# Altium schematic symbol library THD Discrete Semiconductors.SchLib: 185 symbols (part 1 of 3)
Pins are listed as number, name and electrical type; pins without a type are passive.

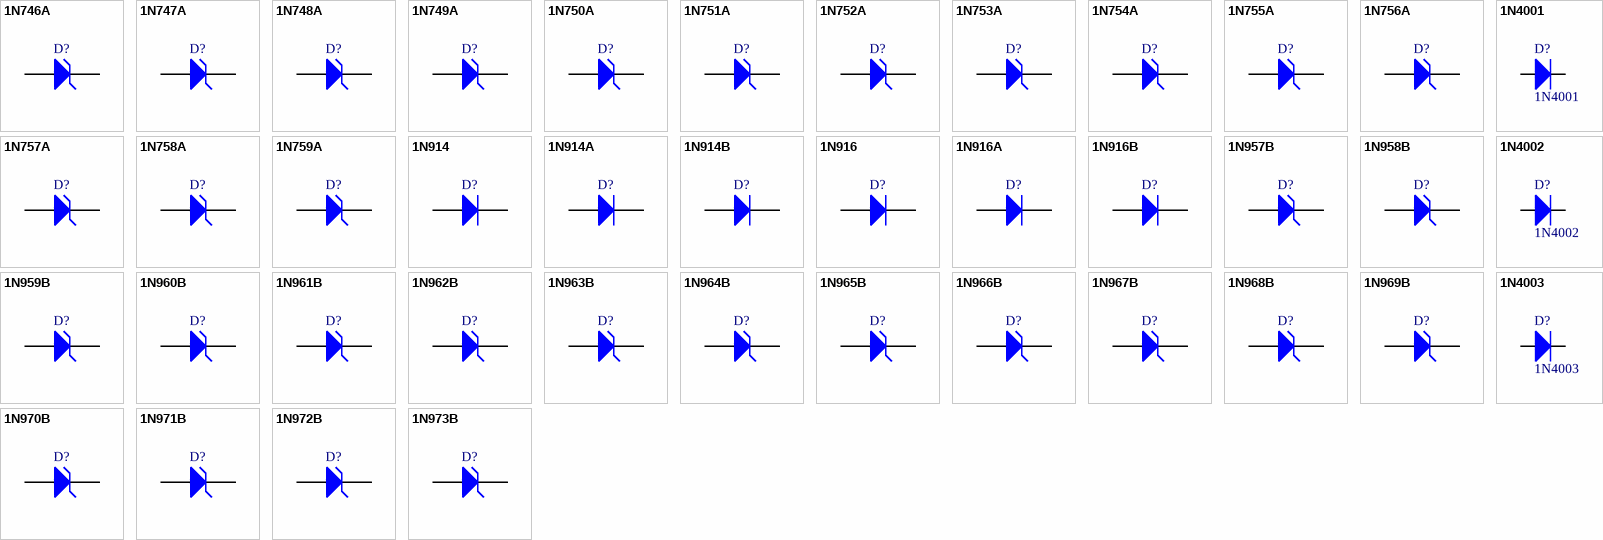
[diagram p0: symbols 1N746A to 1N4003]

## 1N746A
designator D?
3.3V Half Watt Zener; Manufacturer: Fairchild Semiconductor; Revised: 11-July-2000: SIM Model Added.; Class: Discrete; SubClass: Diode - Zener; Published: 8/06/2000; Publisher: Altium Hobart Technology Centre
footprint DO-35-300-RED-GLASS (Diode, Axial; Body 5.2 x 2.7 mm (LxDia. max), Lead Dia. 0.86 mm (max))
pins: 1 A, 2 K

## 1N747A
designator D?
3.6V Half Watt Zener; Manufacturer: Fairchild Semiconductor; Revised: 11-July-2000: SIM Model Added.; Class: Discrete; SubClass: Diode - Zener; Published: 8/06/2000; Publisher: Altium Hobart Technology Centre
footprint DO-35-300-RED-GLASS (Diode, Axial; Body 5.2 x 2.7 mm (LxDia. max), Lead Dia. 0.86 mm (max))
pins: 1 A, 2 K

## 1N748A
designator D?
3.9V Half Watt Zener; Manufacturer: Fairchild Semiconductor; Revised: 11-July-2000: SIM Model Added.; Class: Discrete; SubClass: Diode - Zener; Published: 8/06/2000; Publisher: Altium Hobart Technology Centre
footprint DO-35-300-RED-GLASS (Diode, Axial; Body 5.2 x 2.7 mm (LxDia. max), Lead Dia. 0.86 mm (max))
pins: 1 A, 2 K

## 1N749A
designator D?
4.3V Half Watt Zener; Manufacturer: Fairchild Semiconductor; Revised: 11-July-2000: SIM Model Added.; Class: Discrete; SubClass: Diode - Zener; Published: 8/06/2000; Publisher: Altium Hobart Technology Centre
footprint DO-35-300-RED-GLASS (Diode, Axial; Body 5.2 x 2.7 mm (LxDia. max), Lead Dia. 0.86 mm (max))
pins: 1 A, 2 K

## 1N750A
designator D?
4.7V Half Watt Zener; Manufacturer: Fairchild Semiconductor; Revised: 11-July-2000: SIM Model Added.; Class: Discrete; SubClass: Diode - Zener; Published: 8/06/2000; Publisher: Altium Hobart Technology Centre
footprint DO-35-300-RED-GLASS (Diode, Axial; Body 5.2 x 2.7 mm (LxDia. max), Lead Dia. 0.86 mm (max))
pins: 1 A, 2 K

## 1N751A
designator D?
5.1V Half Watt Zener; Manufacturer: Fairchild Semiconductor; Revised: 11-July-2000: SIM Model Added.; Class: Discrete; SubClass: Diode - Zener; Published: 8/06/2000; Publisher: Altium Hobart Technology Centre
footprint DO-35-300-RED-GLASS (Diode, Axial; Body 5.2 x 2.7 mm (LxDia. max), Lead Dia. 0.86 mm (max))
pins: 1 A, 2 K

## 1N752A
designator D?
5.6V Half Watt Zener; Manufacturer: Fairchild Semiconductor; Revised: 11-July-2000: SIM Model Added.; Class: Discrete; SubClass: Diode - Zener; Published: 8/06/2000; Publisher: Altium Hobart Technology Centre
footprint DO-35-300-RED-GLASS (Diode, Axial; Body 5.2 x 2.7 mm (LxDia. max), Lead Dia. 0.86 mm (max))
pins: 1 A, 2 K

## 1N753A
designator D?
6.2V Half Watt Zener; Manufacturer: Fairchild Semiconductor; Revised: 11-July-2000: SIM Model Added.; Class: Discrete; SubClass: Diode - Zener; Published: 8/06/2000; Publisher: Altium Hobart Technology Centre
footprint DO-35-300-RED-GLASS (Diode, Axial; Body 5.2 x 2.7 mm (LxDia. max), Lead Dia. 0.86 mm (max))
pins: 1 A, 2 K

## 1N754A
designator D?
6.8V Half Watt Zener; Manufacturer: Fairchild Semiconductor; Revised: 11-July-2000: SIM Model Added.; Class: Discrete; SubClass: Diode - Zener; Published: 8/06/2000; Publisher: Altium Hobart Technology Centre
footprint DO-35-300-RED-GLASS (Diode, Axial; Body 5.2 x 2.7 mm (LxDia. max), Lead Dia. 0.86 mm (max))
pins: 1 A, 2 K

## 1N755A
designator D?
7.5V Half Watt Zener; Manufacturer: Fairchild Semiconductor; Revised: 11-July-2000: SIM Model Added.; Class: Discrete; SubClass: Diode - Zener; Published: 8/06/2000; Publisher: Altium Hobart Technology Centre
footprint DO-35-300-RED-GLASS (Diode, Axial; Body 5.2 x 2.7 mm (LxDia. max), Lead Dia. 0.86 mm (max))
pins: 1 A, 2 K

## 1N756A
designator D?
8.2V Half Watt Zener; Manufacturer: Fairchild Semiconductor; Revised: 11-July-2000: SIM Model Added.; Class: Discrete; SubClass: Diode - Zener; Published: 8/06/2000; Publisher: Altium Hobart Technology Centre
footprint DO-35-300-RED-GLASS (Diode, Axial; Body 5.2 x 2.7 mm (LxDia. max), Lead Dia. 0.86 mm (max))
pins: 1 A, 2 K

## 1N757A
designator D?
9.1V Half Watt Zener; Manufacturer: Fairchild Semiconductor; Revised: 11-July-2000: SIM Model Added.; Class: Discrete; SubClass: Diode - Zener; Published: 8/06/2000; Publisher: Altium Hobart Technology Centre
footprint DO-35-300-RED-GLASS (Diode, Axial; Body 5.2 x 2.7 mm (LxDia. max), Lead Dia. 0.86 mm (max))
pins: 1 A, 2 K

## 1N758A
designator D?
10.0V Half Watt Zener; Manufacturer: Fairchild Semiconductor; Revised: 11-July-2000: SIM Model Added.; Class: Discrete; SubClass: Diode - Zener; Published: 8/06/2000; Publisher: Altium Hobart Technology Centre
footprint DO-35-300-RED-GLASS (Diode, Axial; Body 5.2 x 2.7 mm (LxDia. max), Lead Dia. 0.86 mm (max))
pins: 1 A, 2 K

## 1N759A
designator D?
12.0V Half Watt Zener; Manufacturer: Fairchild Semiconductor; Revised: 11-July-2000: SIM Model Added.; Class: Discrete; SubClass: Diode - Zener; Published: 8/06/2000; Publisher: Altium Hobart Technology Centre
footprint DO-35-300-RED-GLASS (Diode, Axial; Body 5.2 x 2.7 mm (LxDia. max), Lead Dia. 0.86 mm (max))
pins: 1 A, 2 K

## 1N914
designator D?
High Conductance Fast Diode; Manufacturer: Fairchild Semiconductor; Revised: 11-July-2000: SIM Model Added.; Class: Discrete; SubClass: Diode - Switching; Published: 8/06/2000; Publisher: Altium Hobart Technology Centre
footprint DO-35-300-RED-GLASS (Diode, Axial; Body 5.2 x 2.7 mm (LxDia. max), Lead Dia. 0.86 mm (max))
pins: 1 A, 2 K

## 1N914A
designator D?
High Conductance Fast Diode; Manufacturer: Fairchild Semiconductor; Revised: 11-July-2000: SIM Model Added.; Class: Discrete; SubClass: Diode - Switching; Published: 8/06/2000; Publisher: Altium Hobart Technology Centre
footprint DO-35-300-RED-GLASS (Diode, Axial; Body 5.2 x 2.7 mm (LxDia. max), Lead Dia. 0.86 mm (max))
pins: 1 A, 2 K

## 1N914B
designator D?
High Conductance Fast Diode; Manufacturer: Fairchild Semiconductor; Revised: 11-July-2000: SIM Model Added.; Class: Discrete; SubClass: Diode - Switching; Published: 8/06/2000; Publisher: Altium Hobart Technology Centre
footprint DO-35-300-RED-GLASS (Diode, Axial; Body 5.2 x 2.7 mm (LxDia. max), Lead Dia. 0.86 mm (max))
pins: 1 A, 2 K

## 1N916
designator D?
High Conductance Fast Diode; Manufacturer: Fairchild Semiconductor; Revised: 11-July-2000: SIM Model Added.; Class: Discrete; SubClass: Diode - Switching; Published: 8/06/2000; Publisher: Altium Hobart Technology Centre
footprint DO-35-300-RED-GLASS (Diode, Axial; Body 5.2 x 2.7 mm (LxDia. max), Lead Dia. 0.86 mm (max))
pins: 1 A, 2 K

## 1N916A
designator D?
High Conductance Fast Diode; Manufacturer: Fairchild Semiconductor; Revised: 11-July-2000: SIM Model Added.; Class: Discrete; SubClass: Diode - Switching; Published: 8/06/2000; Publisher: Altium Hobart Technology Centre
footprint DO-35-300-RED-GLASS (Diode, Axial; Body 5.2 x 2.7 mm (LxDia. max), Lead Dia. 0.86 mm (max))
pins: 1 A, 2 K

## 1N916B
designator D?
High Conductance Fast Diode; Manufacturer: Fairchild Semiconductor; Revised: 11-July-2000: SIM Model Added.; Class: Discrete; SubClass: Diode - Switching; Published: 8/06/2000; Publisher: Altium Hobart Technology Centre
footprint DO-35-300-RED-GLASS (Diode, Axial; Body 5.2 x 2.7 mm (LxDia. max), Lead Dia. 0.86 mm (max))
pins: 1 A, 2 K

## 1N957B
designator D?
6.8V Half Watt Zener; Manufacturer: Fairchild Semiconductor; Revised: 11-July-2000: SIM Model Added.; Class: Discrete; SubClass: Diode - Zener; Published: 8/06/2000; Publisher: Altium Hobart Technology Centre
footprint DO-35-300-RED-GLASS (Diode, Axial; Body 5.2 x 2.7 mm (LxDia. max), Lead Dia. 0.86 mm (max))
pins: 1 A, 2 K

## 1N958B
designator D?
7.5V Half Watt Zener; Manufacturer: Fairchild Semiconductor; Revised: 11-July-2000: SIM Model Added.; Class: Discrete; SubClass: Diode - Zener; Published: 8/06/2000; Publisher: Altium Hobart Technology Centre
footprint DO-35-300-RED-GLASS (Diode, Axial; Body 5.2 x 2.7 mm (LxDia. max), Lead Dia. 0.86 mm (max))
pins: 1 A, 2 K

## 1N959B
designator D?
8.2V Half Watt Zener; Manufacturer: Fairchild Semiconductor; Revised: 11-July-2000: SIM Model Added.; Class: Discrete; SubClass: Diode - Zener; Published: 8/06/2000; Publisher: Altium Hobart Technology Centre
footprint DO-35-300-RED-GLASS (Diode, Axial; Body 5.2 x 2.7 mm (LxDia. max), Lead Dia. 0.86 mm (max))
pins: 1 A, 2 K

## 1N960B
designator D?
9.1V Half Watt Zener; Manufacturer: Fairchild Semiconductor; Revised: 11-July-2000: SIM Model Added.; Class: Discrete; SubClass: Diode - Zener; Published: 8/06/2000; Publisher: Altium Hobart Technology Centre
footprint DO-35-300-RED-GLASS (Diode, Axial; Body 5.2 x 2.7 mm (LxDia. max), Lead Dia. 0.86 mm (max))
pins: 1 A, 2 K

## 1N961B
designator D?
10V Half Watt Zener; Manufacturer: Fairchild Semiconductor; Revised: 11-July-2000: SIM Model Added.; Class: Discrete; SubClass: Diode - Zener; Published: 8/06/2000; Publisher: Altium Hobart Technology Centre
footprint DO-35-300-RED-GLASS (Diode, Axial; Body 5.2 x 2.7 mm (LxDia. max), Lead Dia. 0.86 mm (max))
pins: 1 A, 2 K

## 1N962B
designator D?
11V Half Watt Zener; Manufacturer: Fairchild Semiconductor; Revised: 11-July-2000: SIM Model Added.; Class: Discrete; SubClass: Diode - Zener; Published: 8/06/2000; Publisher: Altium Hobart Technology Centre
footprint DO-35-300-RED-GLASS (Diode, Axial; Body 5.2 x 2.7 mm (LxDia. max), Lead Dia. 0.86 mm (max))
pins: 1 A, 2 K

## 1N963B
designator D?
12V Half Watt Zener; Manufacturer: Fairchild Semiconductor; Revised: 11-July-2000: SIM Model Added.; Class: Discrete; SubClass: Diode - Zener; Published: 8/06/2000; Publisher: Altium Hobart Technology Centre
footprint DO-35-300-RED-GLASS (Diode, Axial; Body 5.2 x 2.7 mm (LxDia. max), Lead Dia. 0.86 mm (max))
pins: 1 A, 2 K

## 1N964B
designator D?
13V Half Watt Zener; Manufacturer: Fairchild Semiconductor; Revised: 11-July-2000: SIM Model Added.; Class: Discrete; SubClass: Diode - Zener; Published: 8/06/2000; Publisher: Altium Hobart Technology Centre
footprint DO-35-300-RED-GLASS (Diode, Axial; Body 5.2 x 2.7 mm (LxDia. max), Lead Dia. 0.86 mm (max))
pins: 1 A, 2 K

## 1N965B
designator D?
15V Half Watt Zener; Manufacturer: Fairchild Semiconductor; Revised: 11-July-2000: SIM Model Added.; Class: Discrete; SubClass: Diode - Zener; Published: 8/06/2000; Publisher: Altium Hobart Technology Centre
footprint DO-35-300-RED-GLASS (Diode, Axial; Body 5.2 x 2.7 mm (LxDia. max), Lead Dia. 0.86 mm (max))
pins: 1 A, 2 K

## 1N966B
designator D?
16V Half Watt Zener; Manufacturer: Fairchild Semiconductor; Revised: 11-July-2000: SIM Model Added.; Class: Discrete; SubClass: Diode - Zener; Published: 8/06/2000; Publisher: Altium Hobart Technology Centre
footprint DO-35-300-RED-GLASS (Diode, Axial; Body 5.2 x 2.7 mm (LxDia. max), Lead Dia. 0.86 mm (max))
pins: 1 A, 2 K

## 1N967B
designator D?
18V Half Watt Zener; Manufacturer: Fairchild Semiconductor; Revised: 11-July-2000: SIM Model Added.; Class: Discrete; SubClass: Diode - Zener; Published: 8/06/2000; Publisher: Altium Hobart Technology Centre
footprint DO-35-300-RED-GLASS (Diode, Axial; Body 5.2 x 2.7 mm (LxDia. max), Lead Dia. 0.86 mm (max))
pins: 1 A, 2 K

## 1N968B
designator D?
20V Half Watt Zener; Manufacturer: Fairchild Semiconductor; Revised: 11-July-2000: SIM Model Added.; Class: Discrete; SubClass: Diode - Zener; Published: 8/06/2000; Publisher: Altium Hobart Technology Centre
footprint DO-35-300-RED-GLASS (Diode, Axial; Body 5.2 x 2.7 mm (LxDia. max), Lead Dia. 0.86 mm (max))
pins: 1 A, 2 K

## 1N969B
designator D?
22V Half Watt Zener; Manufacturer: Fairchild Semiconductor; Revised: 11-July-2000: SIM Model Added.; Class: Discrete; SubClass: Diode - Zener; Published: 8/06/2000; Publisher: Altium Hobart Technology Centre
footprint DO-35-300-RED-GLASS (Diode, Axial; Body 5.2 x 2.7 mm (LxDia. max), Lead Dia. 0.86 mm (max))
pins: 1 A, 2 K

## 1N970B
designator D?
24V Half Watt Zener; Manufacturer: Fairchild Semiconductor; Revised: 11-July-2000: SIM Model Added.; Class: Discrete; SubClass: Diode - Zener; Published: 8/06/2000; Publisher: Altium Hobart Technology Centre
footprint DO-35-300-RED-GLASS (Diode, Axial; Body 5.2 x 2.7 mm (LxDia. max), Lead Dia. 0.86 mm (max))
pins: 1 A, 2 K

## 1N971B
designator D?
27V Half Watt Zener; Manufacturer: Fairchild Semiconductor; Revised: 11-July-2000: SIM Model Added.; Class: Discrete; SubClass: Diode - Zener; Published: 8/06/2000; Publisher: Altium Hobart Technology Centre
footprint DO-35-300-RED-GLASS (Diode, Axial; Body 5.2 x 2.7 mm (LxDia. max), Lead Dia. 0.86 mm (max))
pins: 1 A, 2 K

## 1N972B
designator D?
30V Half Watt Zener; Manufacturer: Fairchild Semiconductor; Revised: 11-July-2000: SIM Model Added.; Class: Discrete; SubClass: Diode - Zener; Published: 8/06/2000; Publisher: Altium Hobart Technology Centre
footprint DO-35-300-RED-GLASS (Diode, Axial; Body 5.2 x 2.7 mm (LxDia. max), Lead Dia. 0.86 mm (max))
pins: 1 A, 2 K

## 1N973B
designator D?
33V Half Watt Zener; Manufacturer: Fairchild Semiconductor; Revised: 11-July-2000: SIM Model Added.; Class: Discrete; SubClass: Diode - Zener; Published: 8/06/2000; Publisher: Altium Hobart Technology Centre
footprint DO-35-300-RED-GLASS (Diode, Axial; Body 5.2 x 2.7 mm (LxDia. max), Lead Dia. 0.86 mm (max))
pins: 1 A, 2 K

## 1N4001
designator D?
1A,  Vrms=35V General Purpose Rectifier; Published: 8-Jun-2000; LatestRevisionDate: 17-Jul-2002; LatestRevisionNote: Re-released for DXP Platform.; DatasheetVersion: 1998; PackageVersion: Aug-1999; PackageReference: DO-41; Publisher: Altium Limited; PackageDescription: Diode, Axial; Body 5.2 x 2.7 mm (LxDia. max), Lead Dia. 0.86 mm (max); Code_JEDEC: DO-204-AL; ComponentLink1Description: Manufacturer Link; ComponentLink1URL: http://www.fairchildsemi.com/; ComponentLink2Description: Datasheet; ComponentLink2URL: http://www.fairchildsemi.com/ds/1N%2F1N4001.pdf
footprint DO-41-400-BLACK (Diode, Axial; Body 5.2 x 2.7 mm (LxDia. max), Lead Dia. 0.86 mm (max))
footprint DO-41-300-BLACK (Diode, Axial; Body 5.2 x 2.7 mm (LxDia. max), Lead Dia. 0.86 mm (max))
footprint DO-41-500-BLACK (Diode, Axial; Body 5.2 x 2.7 mm (LxDia. max), Lead Dia. 0.86 mm (max))
pins: 1 A, 2 K

## 1N4002
designator D?
1A,  Vrms=70V General Purpose Rectifier; Published: 8-Jun-2000; LatestRevisionDate: 17-Jul-2002; LatestRevisionNote: Re-released for DXP Platform.; DatasheetVersion: 1998; PackageVersion: Aug-1999; PackageReference: DO-41; Publisher: Altium Limited; PackageDescription: Diode, Axial; Body 5.2 x 2.7 mm (LxDia. max), Lead Dia. 0.86 mm (max); Code_JEDEC: DO-204-AL; ComponentLink1Description: Manufacturer Link; ComponentLink1URL: http://www.fairchildsemi.com/; ComponentLink2Description: Datasheet; ComponentLink2URL: http://www.fairchildsemi.com/ds/1N%2F1N4001.pdf
footprint DO-41-400-BLACK (Diode, Axial; Body 5.2 x 2.7 mm (LxDia. max), Lead Dia. 0.86 mm (max))
footprint DO-41-300-BLACK (Diode, Axial; Body 5.2 x 2.7 mm (LxDia. max), Lead Dia. 0.86 mm (max))
footprint DO-41-500-BLACK (Diode, Axial; Body 5.2 x 2.7 mm (LxDia. max), Lead Dia. 0.86 mm (max))
pins: 1 A, 2 K

## 1N4003
designator D?
1A,  Vrms=140V General Purpose Rectifier; Published: 8-Jun-2000; LatestRevisionDate: 17-Jul-2002; LatestRevisionNote: Re-released for DXP Platform.; DatasheetVersion: 1998; PackageVersion: Aug-1999; PackageReference: DO-41; Publisher: Altium Limited; PackageDescription: Diode, Axial; Body 5.2 x 2.7 mm (LxDia. max), Lead Dia. 0.86 mm (max); Code_JEDEC: DO-204-AL; ComponentLink1Description: Manufacturer Link; ComponentLink1URL: http://www.fairchildsemi.com/; ComponentLink2Description: Datasheet; ComponentLink2URL: http://www.fairchildsemi.com/ds/1N%2F1N4001.pdf
footprint DO-41-400-BLACK (Diode, Axial; Body 5.2 x 2.7 mm (LxDia. max), Lead Dia. 0.86 mm (max))
footprint DO-41-300-BLACK (Diode, Axial; Body 5.2 x 2.7 mm (LxDia. max), Lead Dia. 0.86 mm (max))
footprint DO-41-500-BLACK (Diode, Axial; Body 5.2 x 2.7 mm (LxDia. max), Lead Dia. 0.86 mm (max))
pins: 1 A, 2 K

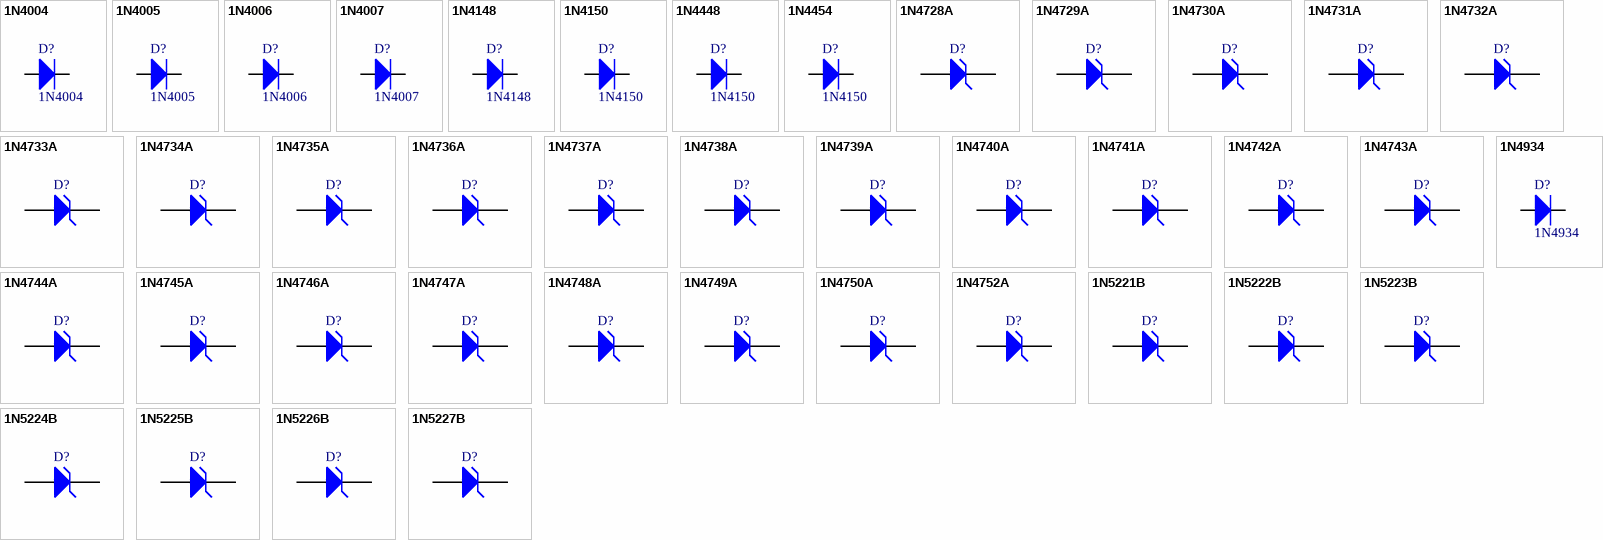
[diagram p1: symbols 1N4004 to 1N5227B]

## 1N4004
designator D?
1A,  Vrms=280V General Purpose Rectifier; Published: 8-Jun-2000; LatestRevisionDate: 17-Jul-2002; LatestRevisionNote: Re-released for DXP Platform.; DatasheetVersion: 1998; PackageVersion: Aug-1999; PackageReference: DO-41; Publisher: Altium Limited; PackageDescription: Diode, Axial; Body 5.2 x 2.7 mm (LxDia. max), Lead Dia. 0.86 mm (max); Code_JEDEC: DO-204-AL; ComponentLink1Description: Manufacturer Link; ComponentLink1URL: http://www.fairchildsemi.com/; ComponentLink2Description: Datasheet; ComponentLink2URL: http://www.fairchildsemi.com/ds/1N%2F1N4001.pdf
footprint DO-41-400-BLACK (Diode, Axial; Body 5.2 x 2.7 mm (LxDia. max), Lead Dia. 0.86 mm (max))
footprint DO-41-300-BLACK (Diode, Axial; Body 5.2 x 2.7 mm (LxDia. max), Lead Dia. 0.86 mm (max))
footprint DO-41-500-BLACK (Diode, Axial; Body 5.2 x 2.7 mm (LxDia. max), Lead Dia. 0.86 mm (max))
pins: 1 A, 2 K

## 1N4005
designator D?
1A,  Vrms=420V General Purpose Rectifier; Published: 8-Jun-2000; LatestRevisionDate: 17-Jul-2002; LatestRevisionNote: Re-released for DXP Platform.; DatasheetVersion: 1998; PackageVersion: Aug-1999; PackageReference: DO-41; Publisher: Altium Limited; PackageDescription: Diode, Axial; Body 5.2 x 2.7 mm (LxDia. max), Lead Dia. 0.86 mm (max); Code_JEDEC: DO-204-AL; ComponentLink1Description: Manufacturer Link; ComponentLink1URL: http://www.fairchildsemi.com/; ComponentLink2Description: Datasheet; ComponentLink2URL: http://www.fairchildsemi.com/ds/1N%2F1N4001.pdf
footprint DO-41-400-BLACK (Diode, Axial; Body 5.2 x 2.7 mm (LxDia. max), Lead Dia. 0.86 mm (max))
footprint DO-41-300-BLACK (Diode, Axial; Body 5.2 x 2.7 mm (LxDia. max), Lead Dia. 0.86 mm (max))
footprint DO-41-500-BLACK (Diode, Axial; Body 5.2 x 2.7 mm (LxDia. max), Lead Dia. 0.86 mm (max))
pins: 1 A, 2 K

## 1N4006
designator D?
1A,  Vrms=560V General Purpose Rectifier; Published: 8-Jun-2000; LatestRevisionDate: 17-Jul-2002; LatestRevisionNote: Re-released for DXP Platform.; DatasheetVersion: 1998; PackageVersion: Aug-1999; PackageReference: DO-41; Publisher: Altium Limited; PackageDescription: Diode, Axial; Body 5.2 x 2.7 mm (LxDia. max), Lead Dia. 0.86 mm (max); Code_JEDEC: DO-204-AL; ComponentLink1Description: Manufacturer Link; ComponentLink1URL: http://www.fairchildsemi.com/; ComponentLink2Description: Datasheet; ComponentLink2URL: http://www.fairchildsemi.com/ds/1N%2F1N4001.pdf
footprint DO-41-400-BLACK (Diode, Axial; Body 5.2 x 2.7 mm (LxDia. max), Lead Dia. 0.86 mm (max))
footprint DO-41-300-BLACK (Diode, Axial; Body 5.2 x 2.7 mm (LxDia. max), Lead Dia. 0.86 mm (max))
footprint DO-41-500-BLACK (Diode, Axial; Body 5.2 x 2.7 mm (LxDia. max), Lead Dia. 0.86 mm (max))
pins: 1 A, 2 K

## 1N4007
designator D?
1A,  Vrms=700V General Purpose Rectifier; Published: 8-Jun-2000; LatestRevisionDate: 17-Jul-2002; LatestRevisionNote: Re-released for DXP Platform.; DatasheetVersion: 1998; PackageVersion: Aug-1999; PackageReference: DO-41; Publisher: Altium Limited; PackageDescription: Diode, Axial; Body 5.2 x 2.7 mm (LxDia. max), Lead Dia. 0.86 mm (max); Code_JEDEC: DO-204-AL; ComponentLink1Description: Manufacturer Link; ComponentLink1URL: http://www.fairchildsemi.com/; ComponentLink2Description: Datasheet; ComponentLink2URL: http://www.fairchildsemi.com/ds/1N%2F1N4001.pdf
footprint DO-41-400-BLACK (Diode, Axial; Body 5.2 x 2.7 mm (LxDia. max), Lead Dia. 0.86 mm (max))
footprint DO-41-300-BLACK (Diode, Axial; Body 5.2 x 2.7 mm (LxDia. max), Lead Dia. 0.86 mm (max))
footprint DO-41-500-BLACK (Diode, Axial; Body 5.2 x 2.7 mm (LxDia. max), Lead Dia. 0.86 mm (max))
pins: 1 A, 2 K

## 1N4148
designator D?
300mA Switching Diode; Published: 8-Jun-2000; LatestRevisionDate: 17-Jul-2002; LatestRevisionNote: Re-released for DXP Platform.; DatasheetVersion: 1998; PackageVersion: Aug-1999; PackageReference: DO-41; Publisher: Altium Limited; PackageDescription: Diode, Axial; Body 5.2 x 2.7 mm (LxDia. max), Lead Dia. 0.86 mm (max); Code_JEDEC: DO-204-AL; ComponentLink1Description: Manufacturer Link; ComponentLink1URL: http://www.fairchildsemi.com/; ComponentLink2Description: Datasheet; ComponentLink2URL: http://www.fairchildsemi.com/ds/1N%2F1N4001.pdf
footprint DO-41-300-RED-GLASS (Diode, Axial; Body 5.2 x 2.7 mm (LxDia. max), Lead Dia. 0.86 mm (max))
footprint DO-41-400-RED-GLASS (Diode, Axial; Body 5.2 x 2.7 mm (LxDia. max), Lead Dia. 0.86 mm (max))
footprint DO-41-500-RED-GLASS (Diode, Axial; Body 5.2 x 2.7 mm (LxDia. max), Lead Dia. 0.86 mm (max))
pins: 1 A, 2 K

## 1N4150
designator D?
High Conductance Ultra Fast Diode; Published: 8-Jun-2000; LatestRevisionDate: 17-Jul-2002; LatestRevisionNote: Re-released for DXP Platform.; DatasheetVersion: 1998; PackageVersion: Aug-1999; PackageReference: DO-41; Publisher: Altium Limited; PackageDescription: Diode, Axial; Body 5.2 x 2.7 mm (LxDia. max), Lead Dia. 0.86 mm (max); Code_JEDEC: DO-204-AL; ComponentLink1Description: Manufacturer Link; ComponentLink1URL: http://www.fairchildsemi.com/; ComponentLink2Description: Datasheet; ComponentLink2URL: http://www.fairchildsemi.com/ds/1N%2F1N4001.pdf
footprint DO-41-300-RED-GLASS (Diode, Axial; Body 5.2 x 2.7 mm (LxDia. max), Lead Dia. 0.86 mm (max))
footprint DO-41-400-RED-GLASS (Diode, Axial; Body 5.2 x 2.7 mm (LxDia. max), Lead Dia. 0.86 mm (max))
footprint DO-41-500-RED-GLASS (Diode, Axial; Body 5.2 x 2.7 mm (LxDia. max), Lead Dia. 0.86 mm (max))
pins: 1 A, 2 K

## 1N4448
designator D?, comment 1N4150
High Conductance Fast Diode; Published: 8-Jun-2000; LatestRevisionDate: 17-Jul-2002; LatestRevisionNote: Re-released for DXP Platform.; DatasheetVersion: 1998; PackageVersion: Aug-1999; PackageReference: DO-41; Publisher: Altium Limited; PackageDescription: Diode, Axial; Body 5.2 x 2.7 mm (LxDia. max), Lead Dia. 0.86 mm (max); Code_JEDEC: DO-204-AL; ComponentLink1Description: Manufacturer Link; ComponentLink1URL: http://www.fairchildsemi.com/; ComponentLink2Description: Datasheet; ComponentLink2URL: http://www.fairchildsemi.com/ds/1N%2F1N4001.pdf
footprint DO-41-300-RED-GLASS (Diode, Axial; Body 5.2 x 2.7 mm (LxDia. max), Lead Dia. 0.86 mm (max))
footprint DO-41-400-RED-GLASS (Diode, Axial; Body 5.2 x 2.7 mm (LxDia. max), Lead Dia. 0.86 mm (max))
footprint DO-41-500-RED-GLASS (Diode, Axial; Body 5.2 x 2.7 mm (LxDia. max), Lead Dia. 0.86 mm (max))
pins: 1 A, 2 K

## 1N4454
designator D?, comment 1N4150
High Conductance Ultra Fast Diode; Published: 8-Jun-2000; LatestRevisionDate: 17-Jul-2002; LatestRevisionNote: Re-released for DXP Platform.; DatasheetVersion: 1998; PackageVersion: Aug-1999; PackageReference: DO-41; Publisher: Altium Limited; PackageDescription: Diode, Axial; Body 5.2 x 2.7 mm (LxDia. max), Lead Dia. 0.86 mm (max); Code_JEDEC: DO-204-AL; ComponentLink1Description: Manufacturer Link; ComponentLink1URL: http://www.fairchildsemi.com/; ComponentLink2Description: Datasheet; ComponentLink2URL: http://www.fairchildsemi.com/ds/1N%2F1N4001.pdf
footprint DO-41-300-RED-GLASS (Diode, Axial; Body 5.2 x 2.7 mm (LxDia. max), Lead Dia. 0.86 mm (max))
footprint DO-41-400-RED-GLASS (Diode, Axial; Body 5.2 x 2.7 mm (LxDia. max), Lead Dia. 0.86 mm (max))
footprint DO-41-500-RED-GLASS (Diode, Axial; Body 5.2 x 2.7 mm (LxDia. max), Lead Dia. 0.86 mm (max))
pins: 1 A, 2 K

## 1N4728A
designator D?
3.3V One Watt Zener; Manufacturer: Fairchild Semiconductor; Revised: 11-July-2000: SIM Model Added.; Class: Discrete; SubClass: Diode - Zener; Published: 8/06/2000; Publisher: Altium Hobart Technology Centre
footprint DO-41-300-RED-GLASS (Diode, Axial; Body 5.2 x 2.7 mm (LxDia. max), Lead Dia. 0.86 mm (max))
pins: 1 A, 2 K

## 1N4729A
designator D?
3.6V One Watt Zener; Manufacturer: Fairchild Semiconductor; Revised: 11-July-2000: SIM Model Added.; Class: Discrete; SubClass: Diode - Zener; Published: 8/06/2000; Publisher: Altium Hobart Technology Centre
footprint DO-41-300-RED-GLASS (Diode, Axial; Body 5.2 x 2.7 mm (LxDia. max), Lead Dia. 0.86 mm (max))
pins: 1 A, 2 K

## 1N4730A
designator D?
3.9V One Watt Zener; Manufacturer: Fairchild Semiconductor; Revised: 11-July-2000: SIM Model Added.; Class: Discrete; SubClass: Diode - Zener; Published: 8/06/2000; Publisher: Altium Hobart Technology Centre
footprint DO-41-300-RED-GLASS (Diode, Axial; Body 5.2 x 2.7 mm (LxDia. max), Lead Dia. 0.86 mm (max))
pins: 1 A, 2 K

## 1N4731A
designator D?
4.3V One Watt Zener; Manufacturer: Fairchild Semiconductor; Revised: 11-July-2000: SIM Model Added.; Class: Discrete; SubClass: Diode - Zener; Published: 8/06/2000; Publisher: Altium Hobart Technology Centre
footprint DO-41-300-RED-GLASS (Diode, Axial; Body 5.2 x 2.7 mm (LxDia. max), Lead Dia. 0.86 mm (max))
pins: 1 A, 2 K

## 1N4732A
designator D?
4.7V One Watt Zener; Manufacturer: Fairchild Semiconductor; Revised: 11-July-2000: SIM Model Added.; Class: Discrete; SubClass: Diode - Zener; Published: 8/06/2000; Publisher: Altium Hobart Technology Centre
footprint DO-41-300-RED-GLASS (Diode, Axial; Body 5.2 x 2.7 mm (LxDia. max), Lead Dia. 0.86 mm (max))
pins: 1 A, 2 K

## 1N4733A
designator D?
5.1V One Watt Zener; Manufacturer: Fairchild Semiconductor; Revised: 11-July-2000: SIM Model Added.; Class: Discrete; SubClass: Diode - Zener; Published: 8/06/2000; Publisher: Altium Hobart Technology Centre
footprint DO-41-300-RED-GLASS (Diode, Axial; Body 5.2 x 2.7 mm (LxDia. max), Lead Dia. 0.86 mm (max))
pins: 1 A, 2 K

## 1N4734A
designator D?
5.6V One Watt Zener; Manufacturer: Fairchild Semiconductor; Revised: 11-July-2000: SIM Model Added.; Class: Discrete; SubClass: Diode - Zener; Published: 8/06/2000; Publisher: Altium Hobart Technology Centre
footprint DO-41-300-RED-GLASS (Diode, Axial; Body 5.2 x 2.7 mm (LxDia. max), Lead Dia. 0.86 mm (max))
pins: 1 A, 2 K

## 1N4735A
designator D?
6.2V One Watt Zener; Manufacturer: Fairchild Semiconductor; Revised: 11-July-2000: SIM Model Added.; Class: Discrete; SubClass: Diode - Zener; Published: 8/06/2000; Publisher: Altium Hobart Technology Centre
footprint DO-41-300-RED-GLASS (Diode, Axial; Body 5.2 x 2.7 mm (LxDia. max), Lead Dia. 0.86 mm (max))
pins: 1 A, 2 K

## 1N4736A
designator D?
6.8V One Watt Zener; Manufacturer: Fairchild Semiconductor; Revised: 11-July-2000: SIM Model Added.; Class: Discrete; SubClass: Diode - Zener; Published: 8/06/2000; Publisher: Altium Hobart Technology Centre
footprint DO-41-300-RED-GLASS (Diode, Axial; Body 5.2 x 2.7 mm (LxDia. max), Lead Dia. 0.86 mm (max))
pins: 1 A, 2 K

## 1N4737A
designator D?
7.5V One Watt Zener; Manufacturer: Fairchild Semiconductor; Revised: 11-July-2000: SIM Model Added.; Class: Discrete; SubClass: Diode - Zener; Published: 8/06/2000; Publisher: Altium Hobart Technology Centre
footprint DO-41-300-RED-GLASS (Diode, Axial; Body 5.2 x 2.7 mm (LxDia. max), Lead Dia. 0.86 mm (max))
pins: 1 A, 2 K

## 1N4738A
designator D?
8.2V One Watt Zener; Manufacturer: Fairchild Semiconductor; Revised: 11-July-2000: SIM Model Added.; Class: Discrete; SubClass: Diode - Zener; Published: 8/06/2000; Publisher: Altium Hobart Technology Centre
footprint DO-41-300-RED-GLASS (Diode, Axial; Body 5.2 x 2.7 mm (LxDia. max), Lead Dia. 0.86 mm (max))
pins: 1 A, 2 K

## 1N4739A
designator D?
9.1V One Watt Zener; Manufacturer: Fairchild Semiconductor; Revised: 11-July-2000: SIM Model Added.; Class: Discrete; SubClass: Diode - Zener; Published: 8/06/2000; Publisher: Altium Hobart Technology Centre
footprint DO-41-300-RED-GLASS (Diode, Axial; Body 5.2 x 2.7 mm (LxDia. max), Lead Dia. 0.86 mm (max))
pins: 1 A, 2 K

## 1N4740A
designator D?
10V One Watt Zener; Manufacturer: Fairchild Semiconductor; Revised: 11-July-2000: SIM Model Added.; Class: Discrete; SubClass: Diode - Zener; Published: 8/06/2000; Publisher: Altium Hobart Technology Centre
footprint DO-41-300-RED-GLASS (Diode, Axial; Body 5.2 x 2.7 mm (LxDia. max), Lead Dia. 0.86 mm (max))
pins: 1 A, 2 K

## 1N4741A
designator D?
11V One Watt Zener; Manufacturer: Fairchild Semiconductor; Revised: 11-July-2000: SIM Model Added.; Class: Discrete; SubClass: Diode - Zener; Published: 8/06/2000; Publisher: Altium Hobart Technology Centre
footprint DO-41-300-RED-GLASS (Diode, Axial; Body 5.2 x 2.7 mm (LxDia. max), Lead Dia. 0.86 mm (max))
pins: 1 A, 2 K

## 1N4742A
designator D?
12V One Watt Zener; Manufacturer: Fairchild Semiconductor; Revised: 11-July-2000: SIM Model Added.; Class: Discrete; SubClass: Diode - Zener; Published: 8/06/2000; Publisher: Altium Hobart Technology Centre
footprint DO-41-300-RED-GLASS (Diode, Axial; Body 5.2 x 2.7 mm (LxDia. max), Lead Dia. 0.86 mm (max))
pins: 1 A, 2 K

## 1N4743A
designator D?
13V One Watt Zener; Manufacturer: Fairchild Semiconductor; Revised: 11-July-2000: SIM Model Added.; Class: Discrete; SubClass: Diode - Zener; Published: 8/06/2000; Publisher: Altium Hobart Technology Centre
footprint DO-41-300-RED-GLASS (Diode, Axial; Body 5.2 x 2.7 mm (LxDia. max), Lead Dia. 0.86 mm (max))
pins: 1 A, 2 K

## 1N4744A
designator D?
15V One Watt Zener; Manufacturer: Fairchild Semiconductor; Revised: 11-July-2000: SIM Model Added.; Class: Discrete; SubClass: Diode - Zener; Published: 8/06/2000; Publisher: Altium Hobart Technology Centre
footprint DO-41-300-RED-GLASS (Diode, Axial; Body 5.2 x 2.7 mm (LxDia. max), Lead Dia. 0.86 mm (max))
pins: 1 A, 2 K

## 1N4745A
designator D?
16V One Watt Zener; Manufacturer: Fairchild Semiconductor; Revised: 11-July-2000: SIM Model Added.; Class: Discrete; SubClass: Diode - Zener; Published: 8/06/2000; Publisher: Altium Hobart Technology Centre
footprint DO-41-300-RED-GLASS (Diode, Axial; Body 5.2 x 2.7 mm (LxDia. max), Lead Dia. 0.86 mm (max))
pins: 1 A, 2 K

## 1N4746A
designator D?
18V One Watt Zener; Manufacturer: Fairchild Semiconductor; Revised: 11-July-2000: SIM Model Added.; Class: Discrete; SubClass: Diode - Zener; Published: 8/06/2000; Publisher: Altium Hobart Technology Centre
footprint DO-41-300-RED-GLASS (Diode, Axial; Body 5.2 x 2.7 mm (LxDia. max), Lead Dia. 0.86 mm (max))
pins: 1 A, 2 K

## 1N4747A
designator D?
20V One Watt Zener; Manufacturer: Fairchild Semiconductor; Revised: 11-July-2000: SIM Model Added.; Class: Discrete; SubClass: Diode - Zener; Published: 8/06/2000; Publisher: Altium Hobart Technology Centre
footprint DO-41-300-RED-GLASS (Diode, Axial; Body 5.2 x 2.7 mm (LxDia. max), Lead Dia. 0.86 mm (max))
pins: 1 A, 2 K

## 1N4748A
designator D?
22V One Watt Zener; Manufacturer: Fairchild Semiconductor; Revised: 11-July-2000: SIM Model Added.; Class: Discrete; SubClass: Diode - Zener; Published: 8/06/2000; Publisher: Altium Hobart Technology Centre
footprint DO-41-300-RED-GLASS (Diode, Axial; Body 5.2 x 2.7 mm (LxDia. max), Lead Dia. 0.86 mm (max))
pins: 1 A, 2 K

## 1N4749A
designator D?
24V One Watt Zener; Manufacturer: Fairchild Semiconductor; Revised: 11-July-2000: SIM Model Added.; Class: Discrete; SubClass: Diode - Zener; Published: 8/06/2000; Publisher: Altium Hobart Technology Centre
footprint DO-41-300-RED-GLASS (Diode, Axial; Body 5.2 x 2.7 mm (LxDia. max), Lead Dia. 0.86 mm (max))
pins: 1 A, 2 K

## 1N4750A
designator D?
27V One Watt Zener; Manufacturer: Fairchild Semiconductor; Revised: 11-July-2000: SIM Model Added.; Class: Discrete; SubClass: Diode - Zener; Published: 8/06/2000; Publisher: Altium Hobart Technology Centre
footprint DO-41-300-RED-GLASS (Diode, Axial; Body 5.2 x 2.7 mm (LxDia. max), Lead Dia. 0.86 mm (max))
pins: 1 A, 2 K

## 1N4752A
designator D?
30V One Watt Zener; Manufacturer: Fairchild Semiconductor; Revised: 11-July-2000: SIM Model Added.; Class: Discrete; SubClass: Diode - Zener; Published: 8/06/2000; Publisher: Altium Hobart Technology Centre
footprint DO-41-300-RED-GLASS (Diode, Axial; Body 5.2 x 2.7 mm (LxDia. max), Lead Dia. 0.86 mm (max))
pins: 1 A, 2 K

## 1N4934
designator D?
1A,  Vrms=70V Fast Recovery Rectifier; Published: 8-Jun-2000; LatestRevisionDate: 17-Jul-2002; LatestRevisionNote: Re-released for DXP Platform.; DatasheetVersion: 1998; PackageVersion: Aug-1999; PackageReference: DO-41; Publisher: Altium Limited; PackageDescription: Diode, Axial; Body 5.2 x 2.7 mm (LxDia. max), Lead Dia. 0.86 mm (max); Code_JEDEC: DO-204-AL; ComponentLink1Description: Manufacturer Link; ComponentLink1URL: http://www.fairchildsemi.com/; ComponentLink2Description: Datasheet; ComponentLink2URL: http://www.fairchildsemi.com/ds/1N%2F1N4001.pdf
footprint DO-41-400-BLACK (Diode, Axial; Body 5.2 x 2.7 mm (LxDia. max), Lead Dia. 0.86 mm (max))
footprint DO-41-300-BLACK (Diode, Axial; Body 5.2 x 2.7 mm (LxDia. max), Lead Dia. 0.86 mm (max))
footprint DO-41-500-BLACK (Diode, Axial; Body 5.2 x 2.7 mm (LxDia. max), Lead Dia. 0.86 mm (max))
pins: 1 A, 2 K

## 1N5221B
designator D?
2.4V Half Watt Zener; Manufacturer: Fairchild Semiconductor; Revised: 11-July-2000: SIM Model Added.; Class: Discrete; SubClass: Diode - Zener; Published: 8/06/2000; Publisher: Altium Hobart Technology Centre
footprint DO-35-300-RED-GLASS (Diode, Axial; Body 5.2 x 2.7 mm (LxDia. max), Lead Dia. 0.86 mm (max))
pins: 1 A, 2 K

## 1N5222B
designator D?
2.5V Half Watt Zener; Manufacturer: Fairchild Semiconductor; Revised: 11-July-2000: SIM Model Added.; Class: Discrete; SubClass: Diode - Zener; Published: 8/06/2000; Publisher: Altium Hobart Technology Centre
footprint DO-35-300-RED-GLASS (Diode, Axial; Body 5.2 x 2.7 mm (LxDia. max), Lead Dia. 0.86 mm (max))
pins: 1 A, 2 K

## 1N5223B
designator D?
2.7V Half Watt Zener; Manufacturer: Fairchild Semiconductor; Revised: 11-July-2000: SIM Model Added.; Class: Discrete; SubClass: Diode - Zener; Published: 8/06/2000; Publisher: Altium Hobart Technology Centre
footprint DO-35-300-RED-GLASS (Diode, Axial; Body 5.2 x 2.7 mm (LxDia. max), Lead Dia. 0.86 mm (max))
pins: 1 A, 2 K

## 1N5224B
designator D?
2.8V Half Watt Zener; Manufacturer: Fairchild Semiconductor; Revised: 11-July-2000: SIM Model Added.; Class: Discrete; SubClass: Diode - Zener; Published: 8/06/2000; Publisher: Altium Hobart Technology Centre
footprint DO-35-300-RED-GLASS (Diode, Axial; Body 5.2 x 2.7 mm (LxDia. max), Lead Dia. 0.86 mm (max))
pins: 1 A, 2 K

## 1N5225B
designator D?
3V Half Watt Zener; Manufacturer: Fairchild Semiconductor; Revised: 11-July-2000: SIM Model Added.; Class: Discrete; SubClass: Diode - Zener; Published: 8/06/2000; Publisher: Altium Hobart Technology Centre
footprint DO-35-300-RED-GLASS (Diode, Axial; Body 5.2 x 2.7 mm (LxDia. max), Lead Dia. 0.86 mm (max))
pins: 1 A, 2 K

## 1N5226B
designator D?
3.3V Half Watt Zener; Manufacturer: Fairchild Semiconductor; Revised: 11-July-2000: SIM Model Added.; Class: Discrete; SubClass: Diode - Zener; Published: 8/06/2000; Publisher: Altium Hobart Technology Centre
footprint DO-35-300-RED-GLASS (Diode, Axial; Body 5.2 x 2.7 mm (LxDia. max), Lead Dia. 0.86 mm (max))
pins: 1 A, 2 K

## 1N5227B
designator D?
3.6V Half Watt Zener; Manufacturer: Fairchild Semiconductor; Revised: 11-July-2000: SIM Model Added.; Class: Discrete; SubClass: Diode - Zener; Published: 8/06/2000; Publisher: Altium Hobart Technology Centre
footprint DO-35-300-RED-GLASS (Diode, Axial; Body 5.2 x 2.7 mm (LxDia. max), Lead Dia. 0.86 mm (max))
pins: 1 A, 2 K

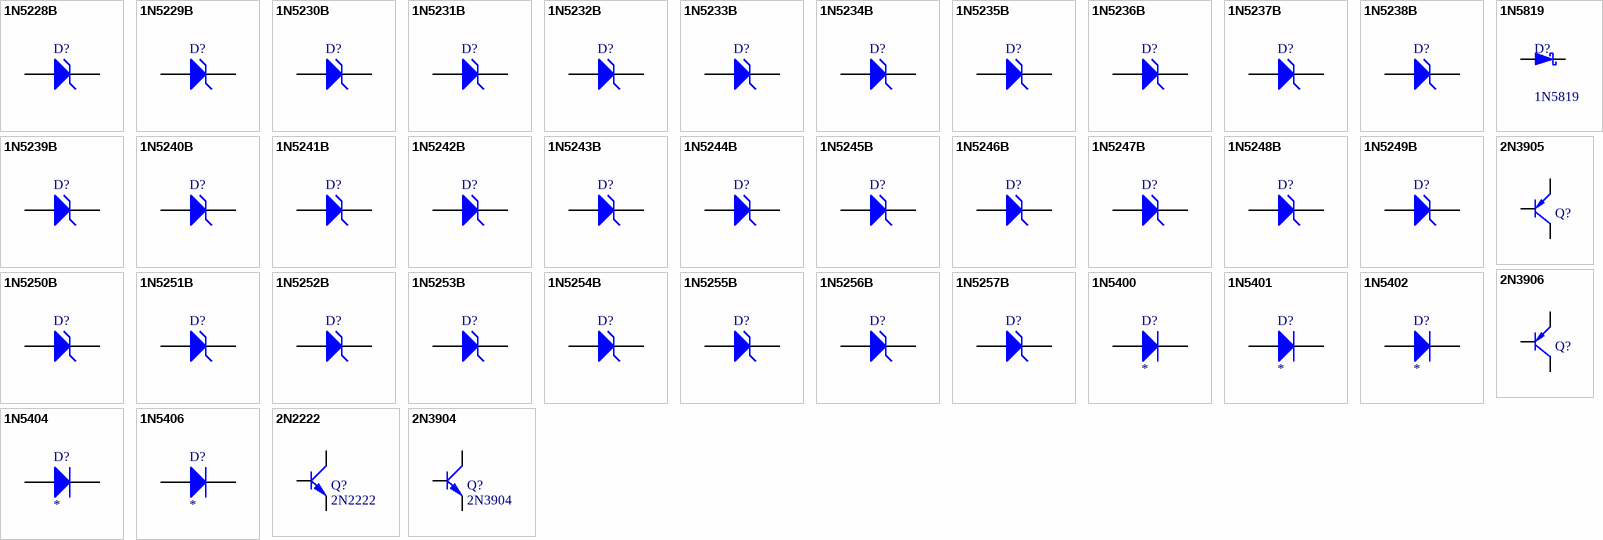
[diagram p2: symbols 1N5228B to 2N3906]

## 1N5228B
designator D?
3.9V Half Watt Zener; Manufacturer: Fairchild Semiconductor; Revised: 11-July-2000: SIM Model Added.; Class: Discrete; SubClass: Diode - Zener; Published: 8/06/2000; Publisher: Altium Hobart Technology Centre
footprint DO-35-300-RED-GLASS (Diode, Axial; Body 5.2 x 2.7 mm (LxDia. max), Lead Dia. 0.86 mm (max))
pins: 1 A, 2 K

## 1N5229B
designator D?
4.3V Half Watt Zener; Manufacturer: Fairchild Semiconductor; Revised: 11-July-2000: SIM Model Added.; Class: Discrete; SubClass: Diode - Zener; Published: 8/06/2000; Publisher: Altium Hobart Technology Centre
footprint DO-35-300-RED-GLASS (Diode, Axial; Body 5.2 x 2.7 mm (LxDia. max), Lead Dia. 0.86 mm (max))
pins: 1 A, 2 K

## 1N5230B
designator D?
4.7V Half Watt Zener; Manufacturer: Fairchild Semiconductor; Revised: 11-July-2000: SIM Model Added.; Class: Discrete; SubClass: Diode - Zener; Published: 8/06/2000; Publisher: Altium Hobart Technology Centre
footprint DO-35-300-RED-GLASS (Diode, Axial; Body 5.2 x 2.7 mm (LxDia. max), Lead Dia. 0.86 mm (max))
pins: 1 A, 2 K

## 1N5231B
designator D?
5.1V Half Watt Zener; Manufacturer: Fairchild Semiconductor; Revised: 11-July-2000: SIM Model Added.; Class: Discrete; SubClass: Diode - Zener; Published: 8/06/2000; Publisher: Altium Hobart Technology Centre
footprint DO-35-300-RED-GLASS (Diode, Axial; Body 5.2 x 2.7 mm (LxDia. max), Lead Dia. 0.86 mm (max))
pins: 1 A, 2 K

## 1N5232B
designator D?
5.6V Half Watt Zener; Manufacturer: Fairchild Semiconductor; Revised: 11-July-2000: SIM Model Added.; Class: Discrete; SubClass: Diode - Zener; Published: 8/06/2000; Publisher: Altium Hobart Technology Centre
footprint DO-35-300-RED-GLASS (Diode, Axial; Body 5.2 x 2.7 mm (LxDia. max), Lead Dia. 0.86 mm (max))
pins: 1 A, 2 K

## 1N5233B
designator D?
6V Half Watt Zener; Manufacturer: Fairchild Semiconductor; Revised: 11-July-2000: SIM Model Added.; Class: Discrete; SubClass: Diode - Zener; Published: 8/06/2000; Publisher: Altium Hobart Technology Centre
footprint DO-35-300-RED-GLASS (Diode, Axial; Body 5.2 x 2.7 mm (LxDia. max), Lead Dia. 0.86 mm (max))
pins: 1 A, 2 K

## 1N5234B
designator D?
6.2V Half Watt Zener; Manufacturer: Fairchild Semiconductor; Revised: 11-July-2000: SIM Model Added.; Class: Discrete; SubClass: Diode - Zener; Published: 8/06/2000; Publisher: Altium Hobart Technology Centre
footprint DO-35-300-RED-GLASS (Diode, Axial; Body 5.2 x 2.7 mm (LxDia. max), Lead Dia. 0.86 mm (max))
pins: 1 A, 2 K

## 1N5235B
designator D?
6.8V Half Watt Zener; Manufacturer: Fairchild Semiconductor; Revised: 11-July-2000: SIM Model Added.; Class: Discrete; SubClass: Diode - Zener; Published: 8/06/2000; Publisher: Altium Hobart Technology Centre
footprint DO-35-300-RED-GLASS (Diode, Axial; Body 5.2 x 2.7 mm (LxDia. max), Lead Dia. 0.86 mm (max))
pins: 1 A, 2 K

## 1N5236B
designator D?
7.5V Half Watt Zener; Manufacturer: Fairchild Semiconductor; Revised: 11-July-2000: SIM Model Added.; Class: Discrete; SubClass: Diode - Zener; Published: 8/06/2000; Publisher: Altium Hobart Technology Centre
footprint DO-35-300-RED-GLASS (Diode, Axial; Body 5.2 x 2.7 mm (LxDia. max), Lead Dia. 0.86 mm (max))
pins: 1 A, 2 K

## 1N5237B
designator D?
8.2V Half Watt Zener; Manufacturer: Fairchild Semiconductor; Revised: 11-July-2000: SIM Model Added.; Class: Discrete; SubClass: Diode - Zener; Published: 8/06/2000; Publisher: Altium Hobart Technology Centre
footprint DO-35-300-RED-GLASS (Diode, Axial; Body 5.2 x 2.7 mm (LxDia. max), Lead Dia. 0.86 mm (max))
pins: 1 A, 2 K

## 1N5238B
designator D?
8.7V Half Watt Zener; Manufacturer: Fairchild Semiconductor; Revised: 11-July-2000: SIM Model Added.; Class: Discrete; SubClass: Diode - Zener; Published: 8/06/2000; Publisher: Altium Hobart Technology Centre
footprint DO-35-300-RED-GLASS (Diode, Axial; Body 5.2 x 2.7 mm (LxDia. max), Lead Dia. 0.86 mm (max))
pins: 1 A, 2 K

## 1N5239B
designator D?
9.1V Half Watt Zener; Manufacturer: Fairchild Semiconductor; Revised: 11-July-2000: SIM Model Added.; Class: Discrete; SubClass: Diode - Zener; Published: 8/06/2000; Publisher: Altium Hobart Technology Centre
footprint DO-35-300-RED-GLASS (Diode, Axial; Body 5.2 x 2.7 mm (LxDia. max), Lead Dia. 0.86 mm (max))
pins: 1 A, 2 K

## 1N5240B
designator D?
10V Half Watt Zener; Manufacturer: Fairchild Semiconductor; Revised: 11-July-2000: SIM Model Added.; Class: Discrete; SubClass: Diode - Zener; Published: 8/06/2000; Publisher: Altium Hobart Technology Centre
footprint DO-35-300-RED-GLASS (Diode, Axial; Body 5.2 x 2.7 mm (LxDia. max), Lead Dia. 0.86 mm (max))
pins: 1 A, 2 K

## 1N5241B
designator D?
11V Half Watt Zener; Manufacturer: Fairchild Semiconductor; Revised: 11-July-2000: SIM Model Added.; Class: Discrete; SubClass: Diode - Zener; Published: 8/06/2000; Publisher: Altium Hobart Technology Centre
footprint DO-35-300-RED-GLASS (Diode, Axial; Body 5.2 x 2.7 mm (LxDia. max), Lead Dia. 0.86 mm (max))
pins: 1 A, 2 K

## 1N5242B
designator D?
12V Half Watt Zener; Manufacturer: Fairchild Semiconductor; Revised: 11-July-2000: SIM Model Added.; Class: Discrete; SubClass: Diode - Zener; Published: 8/06/2000; Publisher: Altium Hobart Technology Centre
footprint DO-35-300-RED-GLASS (Diode, Axial; Body 5.2 x 2.7 mm (LxDia. max), Lead Dia. 0.86 mm (max))
pins: 1 A, 2 K

## 1N5243B
designator D?
13V Half Watt Zener; Manufacturer: Fairchild Semiconductor; Revised: 11-July-2000: SIM Model Added.; Class: Discrete; SubClass: Diode - Zener; Published: 8/06/2000; Publisher: Altium Hobart Technology Centre
footprint DO-35-300-RED-GLASS (Diode, Axial; Body 5.2 x 2.7 mm (LxDia. max), Lead Dia. 0.86 mm (max))
pins: 1 A, 2 K

## 1N5244B
designator D?
14V Half Watt Zener; Manufacturer: Fairchild Semiconductor; Revised: 11-July-2000: SIM Model Added.; Class: Discrete; SubClass: Diode - Zener; Published: 8/06/2000; Publisher: Altium Hobart Technology Centre
footprint DO-35-300-RED-GLASS (Diode, Axial; Body 5.2 x 2.7 mm (LxDia. max), Lead Dia. 0.86 mm (max))
pins: 1 A, 2 K

## 1N5245B
designator D?
15V Half Watt Zener; Manufacturer: Fairchild Semiconductor; Revised: 11-July-2000: SIM Model Added.; Class: Discrete; SubClass: Diode - Zener; Published: 8/06/2000; Publisher: Altium Hobart Technology Centre
footprint DO-35-300-RED-GLASS (Diode, Axial; Body 5.2 x 2.7 mm (LxDia. max), Lead Dia. 0.86 mm (max))
pins: 1 A, 2 K

## 1N5246B
designator D?
16V Half Watt Zener; Manufacturer: Fairchild Semiconductor; Revised: 11-July-2000: SIM Model Added.; Class: Discrete; SubClass: Diode - Zener; Published: 8/06/2000; Publisher: Altium Hobart Technology Centre
footprint DO-35-300-RED-GLASS (Diode, Axial; Body 5.2 x 2.7 mm (LxDia. max), Lead Dia. 0.86 mm (max))
pins: 1 A, 2 K

## 1N5247B
designator D?
17V Half Watt Zener; Manufacturer: Fairchild Semiconductor; Revised: 11-July-2000: SIM Model Added.; Class: Discrete; SubClass: Diode - Zener; Published: 8/06/2000; Publisher: Altium Hobart Technology Centre
footprint DO-35-300-RED-GLASS (Diode, Axial; Body 5.2 x 2.7 mm (LxDia. max), Lead Dia. 0.86 mm (max))
pins: 1 A, 2 K

## 1N5248B
designator D?
18V Half Watt Zener; Manufacturer: Fairchild Semiconductor; Revised: 11-July-2000: SIM Model Added.; Class: Discrete; SubClass: Diode - Zener; Published: 8/06/2000; Publisher: Altium Hobart Technology Centre
footprint DO-35-300-RED-GLASS (Diode, Axial; Body 5.2 x 2.7 mm (LxDia. max), Lead Dia. 0.86 mm (max))
pins: 1 A, 2 K

## 1N5249B
designator D?
19V Half Watt Zener; Manufacturer: Fairchild Semiconductor; Revised: 11-July-2000: SIM Model Added.; Class: Discrete; SubClass: Diode - Zener; Published: 8/06/2000; Publisher: Altium Hobart Technology Centre
footprint DO-35-300-RED-GLASS (Diode, Axial; Body 5.2 x 2.7 mm (LxDia. max), Lead Dia. 0.86 mm (max))
pins: 1 A, 2 K

## 1N5250B
designator D?
20V Half Watt Zener; Manufacturer: Fairchild Semiconductor; Revised: 11-July-2000: SIM Model Added.; Class: Discrete; SubClass: Diode - Zener; Published: 8/06/2000; Publisher: Altium Hobart Technology Centre
footprint DO-35-300-RED-GLASS (Diode, Axial; Body 5.2 x 2.7 mm (LxDia. max), Lead Dia. 0.86 mm (max))
pins: 1 A, 2 K

## 1N5251B
designator D?
22V Half Watt Zener; Manufacturer: Fairchild Semiconductor; Revised: 11-July-2000: SIM Model Added.; Class: Discrete; SubClass: Diode - Zener; Published: 8/06/2000; Publisher: Altium Hobart Technology Centre
footprint DO-35-300-RED-GLASS (Diode, Axial; Body 5.2 x 2.7 mm (LxDia. max), Lead Dia. 0.86 mm (max))
pins: 1 A, 2 K

## 1N5252B
designator D?
24V Half Watt Zener; Manufacturer: Fairchild Semiconductor; Revised: 11-July-2000: SIM Model Added.; Class: Discrete; SubClass: Diode - Zener; Published: 8/06/2000; Publisher: Altium Hobart Technology Centre
footprint DO-35-300-RED-GLASS (Diode, Axial; Body 5.2 x 2.7 mm (LxDia. max), Lead Dia. 0.86 mm (max))
pins: 1 A, 2 K

## 1N5253B
designator D?
25V Half Watt Zener; Manufacturer: Fairchild Semiconductor; Revised: 11-July-2000: SIM Model Added.; Class: Discrete; SubClass: Diode - Zener; Published: 8/06/2000; Publisher: Altium Hobart Technology Centre
footprint DO-35-300-RED-GLASS (Diode, Axial; Body 5.2 x 2.7 mm (LxDia. max), Lead Dia. 0.86 mm (max))
pins: 1 A, 2 K

## 1N5254B
designator D?
27V Half Watt Zener; Manufacturer: Fairchild Semiconductor; Revised: 11-July-2000: SIM Model Added.; Class: Discrete; SubClass: Diode - Zener; Published: 8/06/2000; Publisher: Altium Hobart Technology Centre
footprint DO-35-300-RED-GLASS (Diode, Axial; Body 5.2 x 2.7 mm (LxDia. max), Lead Dia. 0.86 mm (max))
pins: 1 A, 2 K

## 1N5255B
designator D?
28V Half Watt Zener; Manufacturer: Fairchild Semiconductor; Revised: 11-July-2000: SIM Model Added.; Class: Discrete; SubClass: Diode - Zener; Published: 8/06/2000; Publisher: Altium Hobart Technology Centre
footprint DO-35-300-RED-GLASS (Diode, Axial; Body 5.2 x 2.7 mm (LxDia. max), Lead Dia. 0.86 mm (max))
pins: 1 A, 2 K

## 1N5256B
designator D?
30V Half Watt Zener; Manufacturer: Fairchild Semiconductor; Revised: 11-July-2000: SIM Model Added.; Class: Discrete; SubClass: Diode - Zener; Published: 8/06/2000; Publisher: Altium Hobart Technology Centre
footprint DO-35-300-RED-GLASS (Diode, Axial; Body 5.2 x 2.7 mm (LxDia. max), Lead Dia. 0.86 mm (max))
pins: 1 A, 2 K

## 1N5257B
designator D?
33V Half Watt Zener; Manufacturer: Fairchild Semiconductor; Revised: 11-July-2000: SIM Model Added.; Class: Discrete; SubClass: Diode - Zener; Published: 8/06/2000; Publisher: Altium Hobart Technology Centre
footprint DO-35-300-RED-GLASS (Diode, Axial; Body 5.2 x 2.7 mm (LxDia. max), Lead Dia. 0.86 mm (max))
pins: 1 A, 2 K

## 1N5400
designator D?
3A, Vrms=35V General Purpose Rectifier; Manufacturer: Fairchild Semiconductor; Revised: 11-July-2000: SIM Model Added.; Class: Discrete; SubClass: Rectifier - Standard Recovery; Published: 8/06/2000; Publisher: Altium Hobart Technology Centre
footprint DO-41-300-BLACK (Diode, Axial; Body 5.2 x 2.7 mm (LxDia. max), Lead Dia. 0.86 mm (max))
footprint DO-41-400-BLACK (Diode, Axial; Body 5.2 x 2.7 mm (LxDia. max), Lead Dia. 0.86 mm (max))
footprint DO-41-500-BLACK (Diode, Axial; Body 5.2 x 2.7 mm (LxDia. max), Lead Dia. 0.86 mm (max))
pins: 1 A, 2 K

## 1N5401
designator D?
3A, Vrms=70V General Purpose Rectifier; Manufacturer: Fairchild Semiconductor; Revised: 11-July-2000: SIM Model Added.; Class: Discrete; SubClass: Rectifier - Standard Recovery; Published: 8/06/2000; Publisher: Altium Hobart Technology Centre
footprint DO-41-300-BLACK (Diode, Axial; Body 5.2 x 2.7 mm (LxDia. max), Lead Dia. 0.86 mm (max))
footprint DO-41-400-BLACK (Diode, Axial; Body 5.2 x 2.7 mm (LxDia. max), Lead Dia. 0.86 mm (max))
footprint DO-41-500-BLACK (Diode, Axial; Body 5.2 x 2.7 mm (LxDia. max), Lead Dia. 0.86 mm (max))
pins: 1 A, 2 K

## 1N5402
designator D?
3A, Vrms=140V General Purpose Rectifier; Manufacturer: Fairchild Semiconductor; Revised: 11-July-2000: SIM Model Added.; Class: Discrete; SubClass: Rectifier - Standard Recovery; Published: 8/06/2000; Publisher: Altium Hobart Technology Centre
footprint DO-41-300-BLACK (Diode, Axial; Body 5.2 x 2.7 mm (LxDia. max), Lead Dia. 0.86 mm (max))
footprint DO-41-400-BLACK (Diode, Axial; Body 5.2 x 2.7 mm (LxDia. max), Lead Dia. 0.86 mm (max))
footprint DO-41-500-BLACK (Diode, Axial; Body 5.2 x 2.7 mm (LxDia. max), Lead Dia. 0.86 mm (max))
pins: 1 A, 2 K

## 1N5404
designator D?
3A, Vrms=280V General Purpose Rectifier; Manufacturer: Fairchild Semiconductor; Revised: 11-July-2000: SIM Model Added.; Class: Discrete; SubClass: Rectifier - Standard Recovery; Published: 8/06/2000; Publisher: Altium Hobart Technology Centre
footprint DO-41-300-BLACK (Diode, Axial; Body 5.2 x 2.7 mm (LxDia. max), Lead Dia. 0.86 mm (max))
footprint DO-41-400-BLACK (Diode, Axial; Body 5.2 x 2.7 mm (LxDia. max), Lead Dia. 0.86 mm (max))
footprint DO-41-500-BLACK (Diode, Axial; Body 5.2 x 2.7 mm (LxDia. max), Lead Dia. 0.86 mm (max))
pins: 1 A, 2 K

## 1N5406
designator D?
3A, Vrms=420V General Purpose Rectifier; Manufacturer: Fairchild Semiconductor; Revised: 11-July-2000: SIM Model Added.; Class: Discrete; SubClass: Rectifier - Standard Recovery; Published: 8/06/2000; Publisher: Altium Hobart Technology Centre
footprint DO-41-300-BLACK (Diode, Axial; Body 5.2 x 2.7 mm (LxDia. max), Lead Dia. 0.86 mm (max))
footprint DO-41-400-BLACK (Diode, Axial; Body 5.2 x 2.7 mm (LxDia. max), Lead Dia. 0.86 mm (max))
footprint DO-41-500-BLACK (Diode, Axial; Body 5.2 x 2.7 mm (LxDia. max), Lead Dia. 0.86 mm (max))
pins: 1 A, 2 K

## 1N5819
designator D?
Schottky Barrier Rectifier 1.0A, Diodes Inc
footprint DO-41-300-BLACK (Diode, Axial; Body 5.2 x 2.7 mm (LxDia. max), Lead Dia. 0.86 mm (max))
footprint DO-41-400-BLACK (Diode, Axial; Body 5.2 x 2.7 mm (LxDia. max), Lead Dia. 0.86 mm (max))
footprint DO-41-500-BLACK (Diode, Axial; Body 5.2 x 2.7 mm (LxDia. max), Lead Dia. 0.86 mm (max))
pins: 1 A, 2 K

## 2N2222
designator Q?
NPN Low Power Amplifier; Published: 8-Jun-2000; LatestRevisionDate: 15-Jan-2003; LatestRevisionNote: PCB Footprint 'BCY-W3/D4.7' replaced; DatasheetVersion: 1997; PackageVersion: Sep-1998; PackageReference: TO-92A; Publisher: Altium Limited; PackageDescription: TO, Flat Index; 3 In-Line, Axial Leads; Body Dia. 4.5mm; Leads 0.51 x 0.48 mm (max); ComponentLink1Description: Manufacturer Link; ComponentLink1URL: http://www.fairchildsemi.com/; ComponentLink2Description: Datasheet; ComponentLink2URL: http://www.fairchildsemi.com/ds/2N%2F2N3904.pdf
footprint TO-18 (Can; 3 Leads; Pin Circle Dia. 2.54 mm; Lead Dia. 0.48 mm (max))
pins: 1 E, 2 B, 3 C